# EAGLE library part PINHD-1X6 (library SW_Connectors)
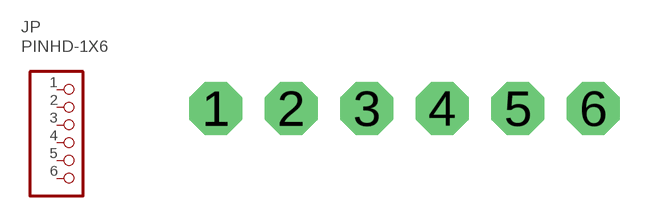
[diagram p11: symbol with the pads of 1X06-CLEANBIG; footprint 1X06-CLEANBIG]

Designator prefix JP

## PINHD-1X6CB (CATEGORY: Connector; PACKAGE: 1x6)  [1X06-CLEANBIG]
1  1  pas
2  2  pas
3  3  pas
4  4  pas
5  5  pas
6  6  pas

## Footprint 1X06-CLEANBIG (pad centres in mm)
drill 1.016 pad 1.778 octagon: 1 -6.35,0; 2 -3.81,0; 3 -1.27,0; 4 1.27,0; 5 3.81,0; 6 6.35,0